# Altium schematic symbol library ADP2302ARDZ-5.0-R7.SchLib: 1 symbol
Pins are listed as number, name and electrical type; pins without a type are passive.

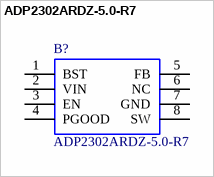
[diagram p0: symbol ADP2302ARDZ-5.0-R7]

## ADP2302ARDZ-5.0-R7
designator B?
Step-Down Regulators; Manufacturer_Name: Analog Devices; Manufacturer_Part_Number: ADP2302ARDZ-5.0-R7; RS Part Number: 7591815P; RS Price/Stock: http://uk.rs-online.com/web/p/products/7591815P; Arrow Part Number: ADP2302ARDZ-5.0-R7; Arrow Price/Stock: https://www.arrow.com/en/products/adp2302ardz-5.0-r7/analog-devices; Datasheet Link: *
footprint SOIC127P600X175-9N
pins: 1 BST, 2 VIN, 3 EN, 4 PGOOD, 5 FB, 6 NC, 7 GND, 8 SW